# EAGLE library part DUMMY-QFN32 (library all-chips)
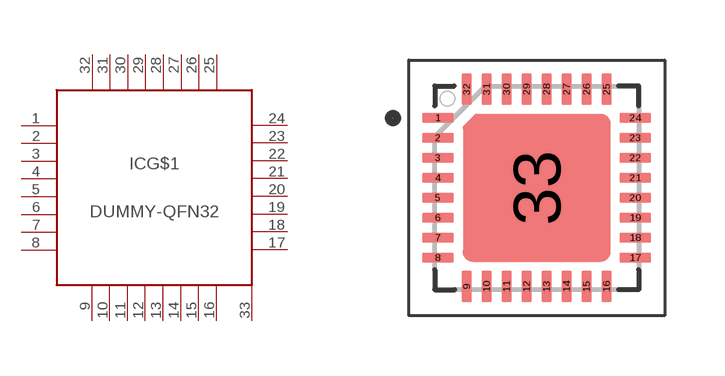
[diagram p24: symbol with the pads of QFN32_5.00X5.00MM; footprint QFN32_5.00X5.00MM]

Designator prefix IC; gates EP=PIN G$1=DUMMY_8-8-8-8

## DUMMY-QFN32  [QFN32_5.00X5.00MM]
1  G$1:1  pas
2  G$1:2  pas
3  G$1:3  pas
4  G$1:4  pas
5  G$1:5  pas
6  G$1:6  pas
7  G$1:7  pas
8  G$1:8  pas
9  G$1:9  pas
10  G$1:10  pas
11  G$1:11  pas
12  G$1:12  pas
13  G$1:13  pas
14  G$1:14  pas
15  G$1:15  pas
16  G$1:16  pas
17  G$1:17  pas
18  G$1:18  pas
19  G$1:19  pas
20  G$1:20  pas
21  G$1:21  pas
22  G$1:22  pas
23  G$1:23  pas
24  G$1:24  pas
25  G$1:25  pas
26  G$1:26  pas
27  G$1:27  pas
28  G$1:28  pas
29  G$1:29  pas
30  G$1:30  pas
31  G$1:31  pas
32  G$1:32  pas
33  EP:1  pas

## Footprint QFN32_5.00X5.00MM (pad centres in mm)
https://www.analog.com/media/en/package-pcb-resources/package/pkg_pdf/ltc-legacy-qfn/QFN_32_05-08-1693.pdf
smd 0.79 x 0.26: 1 -2.47,1.75; 2 -2.47,1.25; 3 -2.47,0.75; 4 -2.47,0.25; 5 -2.47,-0.25; 6 -2.47,-0.75; 7 -2.47,-1.25; 8 -2.47,-1.75; 17 2.47,-1.75; 18 2.47,-1.25; 19 2.47,-0.75; 20 2.47,-0.25; 21 2.47,0.25; 22 2.47,0.75; 23 2.47,1.25; 24 2.47,1.75
smd 0.26 x 0.79: 9 -1.75,-2.47; 10 -1.25,-2.47; 11 -0.75,-2.47; 12 -0.25,-2.47; 13 0.25,-2.47; 14 0.75,-2.47; 15 1.25,-2.47; 16 1.75,-2.47; 25 1.75,2.47; 26 1.25,2.47; 27 0.75,2.47; 28 0.25,2.47; 29 -0.25,2.47; 30 -0.75,2.47; 31 -1.25,2.47; 32 -1.75,2.47
smd 3.15 x 3.15: 33 0,0